# EAGLE library part DMS3019SSD-13 (library diodes-inc-e14)
MOSFET
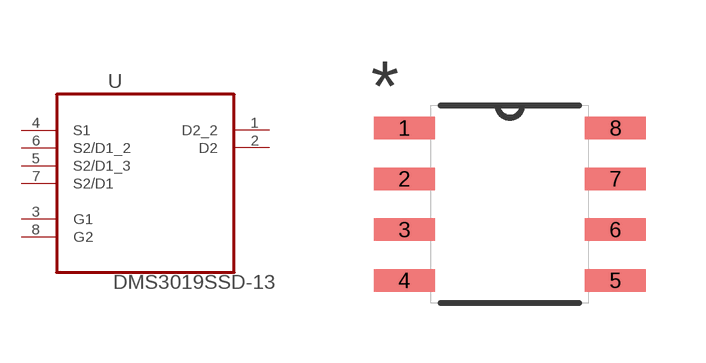
[diagram p29: symbol with the pads of SOIC127P600X175-8N; footprint SOIC127P600X175-8N]

Designator prefix U

## DMS3019SSD-13 (MPN: DMS3019SSD-13; OC_FARNELL: 1863732; OC_NEWARK: 27T2706; PACKAGE: SOIC-8; SUPPLIER: DIODES INC.)  [SOIC127P600X175-8N]
1  D2_2  pas
2  D2  pas
3  G1  pas
4  S1  pas
5  S2/D1_3  pas
6  S2/D1_2  pas
7  S2/D1  pas
8  G2  pas

## Footprint SOIC127P600X175-8N (pad centres in mm)
smd 1.524 x 0.559: 1 -2.642,1.905; 2 -2.642,0.635; 3 -2.642,-0.635; 4 -2.642,-1.905; 5 2.642,-1.905; 6 2.642,-0.635; 7 2.642,0.635; 8 2.642,1.905